# Altium footprint library SIP160W38P127L430H495Q3.PcbLib: 1 footprints
Each footprint in its own frame and in the unit in brackets; x right, y up, seen from the top. Pads: shape width x height; smd on the part's side, far side on the other; paste and mask are expansions set on the pad; w line width, h text height; cw(c..) or ccw(c..) is an arc to the next point about the centre after c.
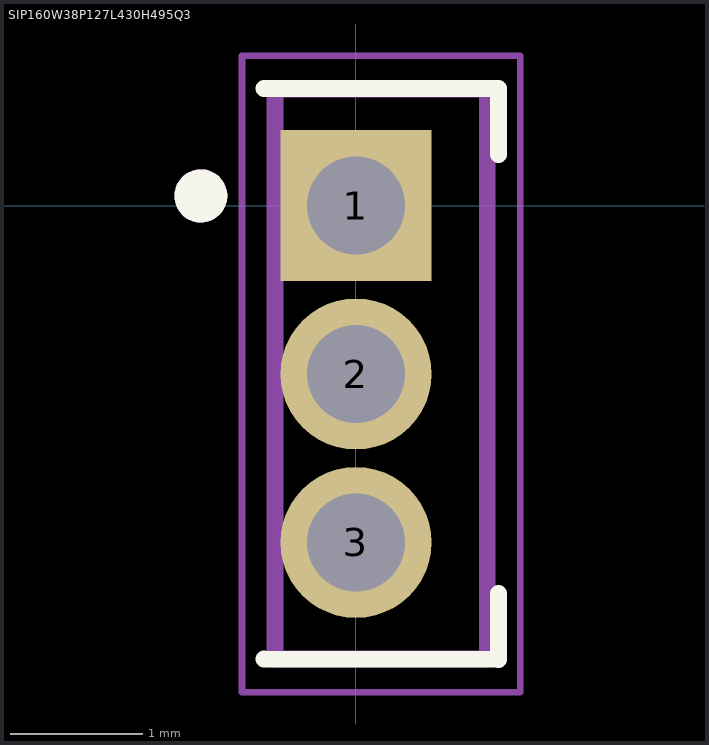
[diagram p0: the footprint, top view; thin cyan lines are the x and y axes]

## SIP160W38P127L430H495Q3 [mm]
pads (3):
  rect 1.14x1.14 hole 0.74: 1(0,0)
  round 1.14 hole 0.74: 2(0,-1.27) 3(0,-2.54)
Top Overlay:
  circle w0.2: c-1.17,0.073 r0.1
  lines w0.127: -0.694,-3.42 1.074,-3.424 1.074,-2.924 ; -0.694,0.884 1.074,0.884 1.074,0.384
Mechanical 13:
  circle w0.2: c-1.17,0.073 r0.1
  lines w0.127: -0.61,-3.42 0.99,-3.42 0.99,0.88 -0.61,0.88 -0.61,-3.42
Mechanical 15:
  lines w0.05: -0.86,-3.67 1.24,-3.67 1.24,1.13 -0.86,1.13 -0.86,-3.67